# Altium footprint library Kanaloa_V2.0.0_Power.PcbLib: 36 footprints (part 3 of 3)
Each footprint in its own frame and in the unit in brackets; x right, y up, seen from the top. Pads: shape width x height; smd on the part's side, far side on the other; paste and mask are expansions set on the pad; w line width, h text height; cw(c..) or ccw(c..) is an arc to the next point about the centre after c.
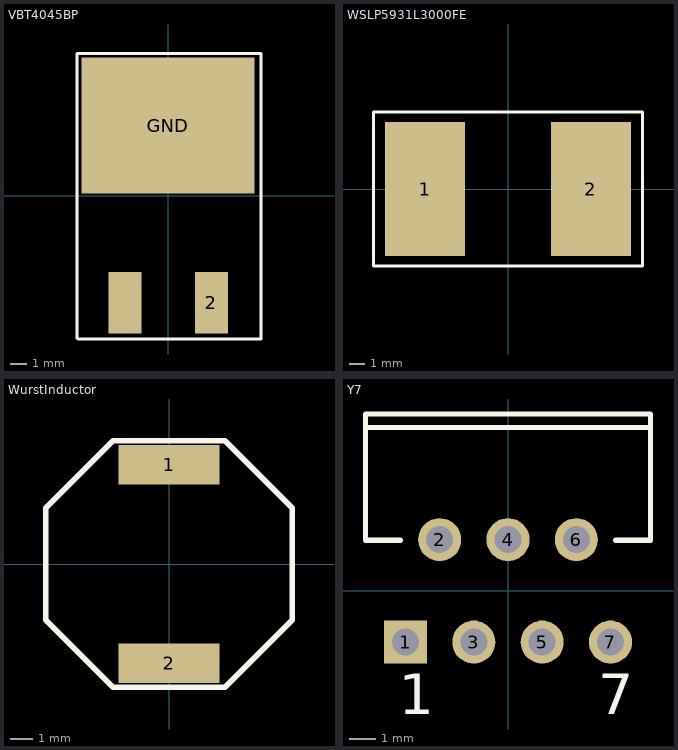
[diagram p2: the footprints below, top view; thin cyan lines are the x and y axes]

## VBT4045BP [mil] "Vishay Shotkey Diode."
pads (3):
  rect 80x150 smd: 2(105,-260) ""(-105,-260)
  rect 420x330 smd: GND(0,170)
Top Overlay:
  lines w7.87: -221,-346 -221,345 225,345 225,-348 218,-348 -219,-348 -221,-346
3D body: height 188.3, standoff -0.68, extent -196.84,-297.45 196.86,319.48

## WSLP5931L3000FE [mil] "Vishay Current Sense Resistor"
pads (2):
  rect 205x344 smd: 1(-212.5,0) 2(212.5,0)
Top Overlay:
  lines w7.87: -344.49,-196.85 344.49,-196.85 344.49,196.85 -344.49,196.85 -344.49,-196.85
3D body: height 39.37, standoff 0, extent -202.85,-106 200.85,108.73

## WurstInductor [mm]
height 3.8
pads (2):
  rect 4.6x1.8 smd: 1(0,4.5) 2(0,-4.5)
Top Overlay:
  lines w0.254: -5.588,-2.54 -2.54,-5.588 2.54,-5.588 5.588,-2.54 5.588,2.54 2.54,5.588 -2.54,5.588 -5.588,2.54 -5.588,-2.54
3D body: height 3.81, standoff 0, extent -5,-5.072 5,4.928

## Y7 [mm] "TO, Thru-Hole, Vertical, Heatsink Mounted; 7 Bent Staggered Leads; Pitch 1.27 mm"
height 21.4
pads (7):
  rect 1.6x1.6 hole 1: 1(-3.81,-1.905)
  round 1.6 hole 1: 2(-2.54,1.905) 3(-1.27,-1.905) 4(0,1.905) 5(1.27,-1.905) 6(2.54,1.905) 7(3.81,-1.905)
Top Overlay:
  lines w0.2: -5.3,6.075 5.3,6.075 ; -4,1.875 -5.3,1.875 -5.3,6.575 5.3,6.575 5.3,1.875 4,1.875
  text "7" at 3.36,-4.58 h1.5
  text "1" at -4.06,-4.58 h1.5